# EAGLE library part MIC4126 (library Dal_V2)
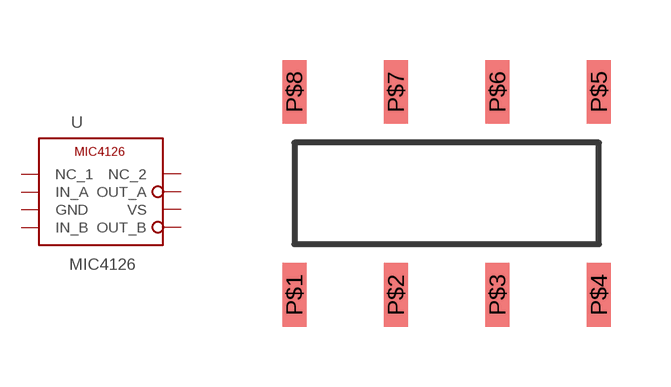
[diagram p14: symbol with the pads of SOIC-8L; footprint SOIC-8L]

Designator prefix -

## MIC4126-SMD  [SOIC-8L]
P$1  NC_1  pas
P$2  IN_A  pas
P$3  GND  pas
P$4  IN_B  pas
P$5  OUT_B  pas
P$6  VS  pas
P$7  OUT_A  pas
P$8  NC_2  pas

## Footprint SOIC-8L (pad centres in mm)
smd 0.6 x 1.6: P$1 0,0; P$2 2.54,0; P$3 5.08,0; P$4 7.62,0; P$5 7.62,5.08; P$6 5.08,5.08; P$7 2.54,5.08; P$8 0,5.08